# EAGLE library part HEF4070B (library hef4070b)
CD4070B HEF4070B
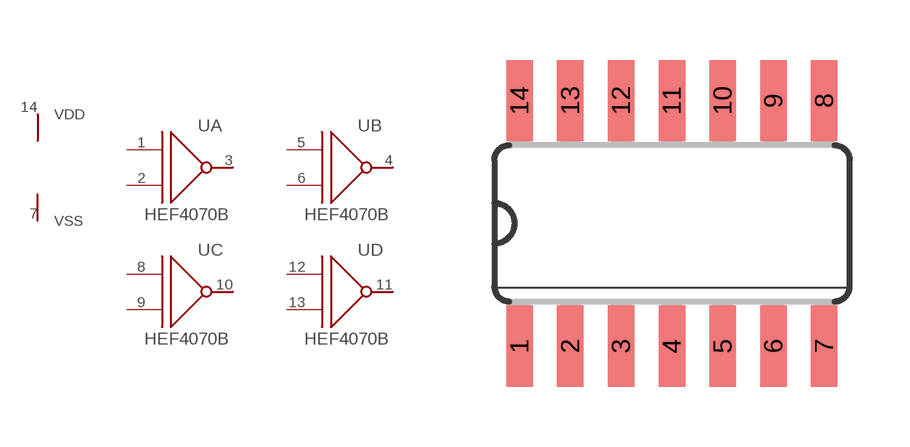
[diagram p0: symbol with the pads of SO14; footprint SO14]

Designator prefix -; gates A=HEF4070B B=HEF4070B C=HEF4070B D=HEF4070B G$1=POWER

## HEF4070B  [SO14]
1  A:I0  in
2  A:I1  in
3  A:O  out
4  B:O  out
5  B:I0  in
6  B:I1  in
7  G$1:VSS
8  C:I0  in
9  C:I1  in
10  C:O  out
11  D:O  out
12  D:I0  in
13  D:I1  in
14  G$1:VDD

## Footprint SO14 (pad centres in mm)
smd 0.66 x 2.032: 1 -3.81,-3.073; 2 -2.54,-3.073; 3 -1.27,-3.073; 4 0,-3.073; 5 1.27,-3.073; 6 2.54,-3.073; 7 3.81,-3.073; 8 3.81,3.073; 9 2.54,3.073; 10 1.27,3.073; 11 0,3.073; 12 -1.27,3.073; 13 -2.54,3.073; 14 -3.81,3.073